# EAGLE library part LT3086MPT7 (library calbi)
The LT3086MPT7 is a 40V, 2.1A Low Dropout adjustable linear regulator with monitoring and cable drop compensation
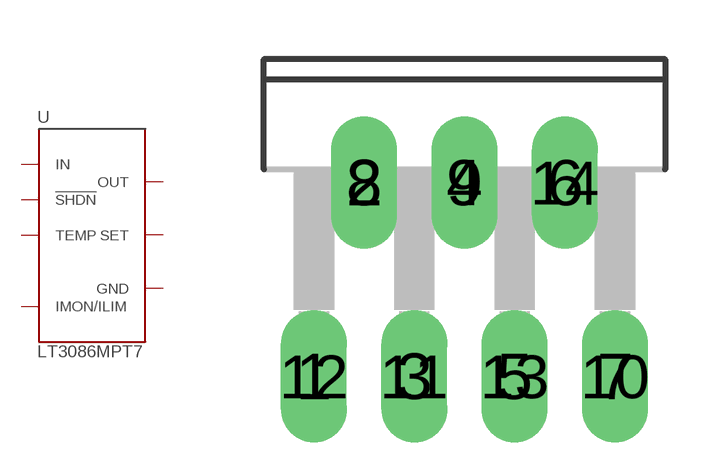
[diagram p0: symbol with the pads of TO220-7; footprint TO220-7]

Designator prefix U

## LT3086MPT7  [TO220-7]
1  IMON/ILIM
2  SET
3  OUT
4  GND
5  IN
6  !SHDN
7  TEMP

## Footprint TO220-7 (pad centres in mm)
Molded Package
drill 1.118 pad 1.626 long: 1 -3.81,-8.036; 2 -2.54,-3.126; 3 -1.27,-8.036; 4 0,-3.126; 5 1.27,-8.036; 6 2.54,-3.126; 7 3.81,-8.036; 8 -2.54,-3.126; 9 0,-3.126; 10 3.81,-8.036; 11 -1.27,-8.036; 12 -3.81,-8.036; 13 1.27,-8.036; 14 2.54,-3.126